# EAGLE library part MXP (library custom)
NI MXP female connector.
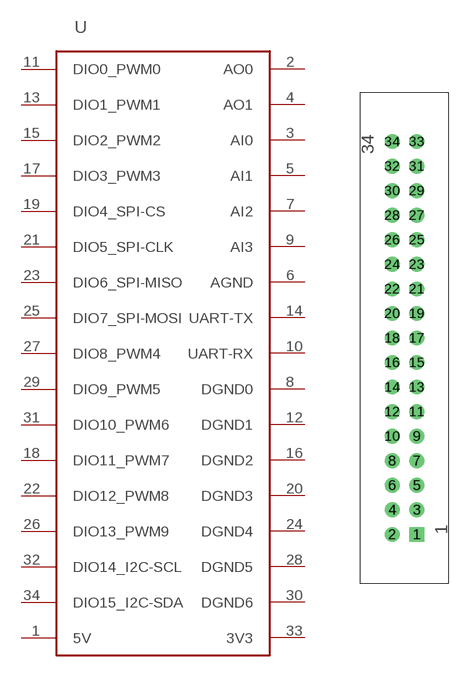
[diagram p0: symbol with the pads of SFH11-PBPC-D17-ST-BK; footprint SFH11-PBPC-D17-ST-BK]

Designator prefix -

## MXP  [SFH11-PBPC-D17-ST-BK]
1  5V  pwr
2  AO0  out
3  AI0  in
4  AO1  out
5  AI1  in
6  AGND  pwr
7  AI2  in
8  DGND0  pwr
9  AI3  in
10  UART-RX  in
11  DIO0_PWM0
12  DGND1  pwr
13  DIO1_PWM1
14  UART-TX  out
15  DIO2_PWM2
16  DGND2  pwr
17  DIO3_PWM3
18  DIO11_PWM7
19  DIO4_SPI-CS
20  DGND3  pwr
21  DIO5_SPI-CLK
22  DIO12_PWM8
23  DIO6_SPI-MISO
24  DGND4  pwr
25  DIO7_SPI-MOSI
26  DIO13_PWM9
27  DIO8_PWM4
28  DGND5  pwr
29  DIO9_PWM5
30  DGND6  pwr
31  DIO10_PWM6
32  DIO14_I2C-SCL
33  3V3  pwr
34  DIO15_I2C-SDA

## Footprint SFH11-PBPC-D17-ST-BK (pad centres in mm)
2x17 0.01" keyed female connector. Sullins SFH11-PBPC-D17-ST-BK This package is upside down (you put it on the top side and it corresponds to a connector on the bottom); oops...
drill 1.016 square: 1 1.27,-20.32
drill 1.016: 2 -1.27,-20.32; 3 1.27,-17.78; 4 -1.27,-17.78; 5 1.27,-15.24; 6 -1.27,-15.24; 7 1.27,-12.7; 8 -1.27,-12.7; 9 1.27,-10.16; 10 -1.27,-10.16; 11 1.27,-7.62; 12 -1.27,-7.62; 13 1.27,-5.08; 14 -1.27,-5.08; 15 1.27,-2.54; 16 -1.27,-2.54; 17 1.27,0; 18 -1.27,0; 19 1.27,2.54; 20 -1.27,2.54; 21 1.27,5.08; 22 -1.27,5.08; 23 1.27,7.62; 24 -1.27,7.62; 25 1.27,10.16; 26 -1.27,10.16; 27 1.27,12.7; 28 -1.27,12.7; 29 1.27,15.24; 30 -1.27,15.24; 31 1.27,17.78; 32 -1.27,17.78; 33 1.27,20.32; 34 -1.27,20.32